# EAGLE library part IV-6 (library CasaLibrary)
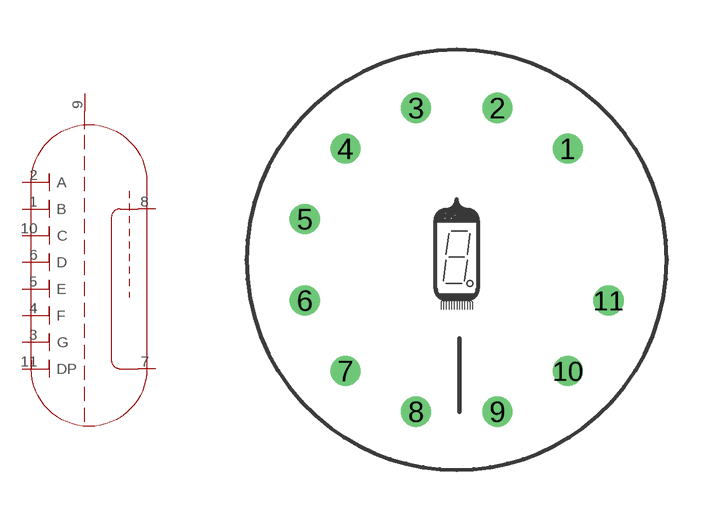
[diagram p19: symbol with the pads of IV-6; footprint IV-6]

Designator prefix -

## IV-6  [IV-6]
1  B  in
2  A  in
3  G  in
4  F  in
5  E  in
6  D  in
7  FIL  in
8  FIL/K  in
9  GRID  in
10  C  in
11  DP  in

## Footprint IV-6 (pad centres in mm)
drill 0.4 pad 0.8: 1 3.359,3.359; 2 1.229,4.588; 3 -1.229,4.588; 4 -3.359,3.359; 5 -4.588,1.229; 6 -4.588,-1.229; 7 -3.359,-3.359; 8 -1.229,-4.588; 9 1.229,-4.588; 10 3.359,-3.359; 11 4.588,-1.229